# Altium footprint library Conn.USB.PcbLib: 1 footprints
Each footprint in its own frame and in the unit in brackets; x right, y up, seen from the top. Pads: shape width x height; smd on the part's side, far side on the other; paste and mask are expansions set on the pad; w line width, h text height; cw(c..) or ccw(c..) is an arc to the next point about the centre after c.

## USB-C 24-Pin Vertical 4-Hole Mount [mm] "USB-C 24-Pin Receptacle, Vertical 4-Hole Mount"
height 9.3
pads (30):
  round 1.1 hole 0.7: 0(-2.4,-2.15) 0(-2.4,2.15) 0(2.4,-2.15) 0(2.4,2.15)
  rrect20% 0.3x0.85 smd: A1(-2.75,0.835) A2(-2.25,0.835) A3(-1.75,0.835) A4(-1.25,0.835) A5(-0.75,0.835) A6(-0.25,0.835) A7(0.25,0.835) A8(0.75,0.835) A9(1.25,0.835) A10(1.75,0.835) A11(2.25,0.835) A12(2.75,0.835) B1(2.75,-0.835) B2(2.25,-0.835) B3(1.75,-0.835) B4(1.25,-0.835) B5(0.75,-0.835) B6(0.25,-0.835) B7(-0.25,-0.835) B8(-0.75,-0.835) B9(-1.25,-0.835) B10(-1.75,-0.835) B11(-2.25,-0.835) B12(-2.75,-0.835)
  round 0.66 hole 0.66 unplated: MH(-3.75,0)
  oval 1x0.58 hole 0.58 slot 1 at 0 deg unplated: MH(3.75,0)
Top Overlay:
  lines w0.2: -3.3,-2.1 -4.4,-2.1 -4.4,2.1 -3.3,2.1 ; -1.7,-1.8 -0.8,-1.8 ; -1.7,1.8 -0.6,1.8 ; 0.8,-1.8 1.7,-1.8 ; 0.8,1.8 1.7,1.8 ; 3.3,-2.1 4.4,-2.1 4.4,2.1 3.3,2.1
Mechanical 1:
  drawing of 253 lines, arcs and shapes, not listed
Mechanical 15:
  lines w0.05: -4.7,-3 4.7,-3 4.7,3 -4.7,3 -4.7,-3
  lines w0.1: -0.5,0 0.5,0 ; 0,-0.5 0,0.5
3D body "USB4115-03-C_revB.STEP": height 9.32, standoff -1.08, extent -4.47,-2.3 4.47,2.3